# Altium schematic symbol library gniazda.SchLib: 2 symbols
Pins are listed as number, name and electrical type; pins without a type are passive.

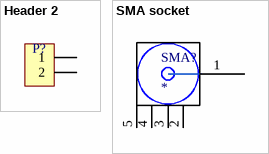
[diagram p0: symbols Header 2 to SMA socket]

## Header 2
designator P?  (value not drawn)
Header, 2-bin, vertical; Raster: 1.54mm; Pin count: 2; Manufaterer: *; Footprint type: THT; Part number: *; Package: *
footprint Header-2
pins: 1, 2

## SMA socket
designator SMA?
Manufacterer: Telegärtner; Part number: J01151A1201; Impedance: 50 ohm; Socket type: SMA; Pin count: 5; Footprint type: SMD
footprint SMA socket
pins: 1, 2, 3, 4, 5